# Altium footprint library Footprint-Lib-JVillodres.PcbLib: 38 footprints (part 3 of 3)
Each footprint in its own frame and in the unit in brackets; x right, y up, seen from the top. Pads: shape width x height; smd on the part's side, far side on the other; paste and mask are expansions set on the pad; w line width, h text height; cw(c..) or ccw(c..) is an arc to the next point about the centre after c.
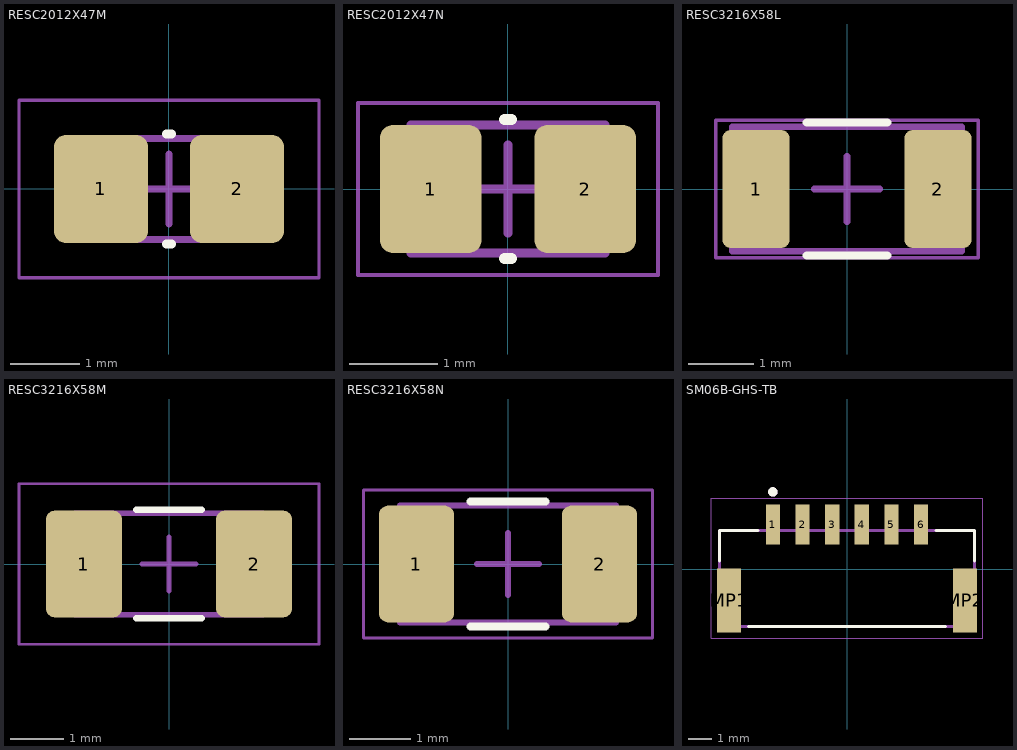
[diagram p2: the footprints below, top view; thin cyan lines are the x and y axes]

## RESC2012X47M [mm] "Chip Resistor, 2-Leads, Body 2,00x1,25mm, IPC Low Density"
height 0.47
pads (2):
  rrect25% 1.35x1.55 smd: 1(-0.975,0) 2(0.975,0)
Top Overlay:
  lines w0.127: -0.036,-0.788 0.036,-0.788 ; -0.036,0.788 0.036,0.788
Top Assembly:
  lines w0.1: -1.1,-0.725 -1.1,0.725 1.1,0.725 1.1,-0.725 -1.1,-0.725
Top Designator:
  text ".Designator" at 0,0.188 h1
Top Courtyard:
  lines w0.05: -2.15,-1.275 -2.15,1.275 2.15,1.275 2.15,-1.275 -2.15,-1.275
Top Component Center:
  lines w0.1: -0.5,0 0.5,0 ; 0,-0.5 0,0.5
3D body "RESC2012X47M.step": height 0.47, standoff 0, extent -1,-0.625 1,0.625

## RESC2012X47N [mm] "Chip Resistor, 2-Leads, Body 2,00x1,25mm, IPC Medium Density"
height 0.47
pads (2):
  rrect25% 1.15x1.45 smd: 1(-0.875,0) 2(0.875,0)
Top Overlay:
  lines w0.127: -0.036,-0.788 0.036,-0.788 ; -0.036,0.788 0.036,0.788
Top Assembly:
  lines w0.1: -1.1,-0.725 -1.1,0.725 1.1,0.725 1.1,-0.725 -1.1,-0.725
Top Designator:
  text ".Designator" at 0,0.188 h1
Top Courtyard:
  lines w0.05: -1.7,-0.975 -1.7,0.975 1.7,0.975 1.7,-0.975 -1.7,-0.975
Top Component Center:
  lines w0.1: -0.5,0 0.5,0 ; 0,-0.5 0,0.5
3D body "RESC2012X47N.step": height 0.47, standoff 0, extent -1,-0.625 1,0.625

## RESC3216X58L [mm] "Chip Resistor, 2-Leads, Body 3,20x1,60mm, IPC High Density"
height 0.58
pads (2):
  rrect25% 1.025x1.8 smd: 1(-1.388,0) 2(1.388,0)
Top Overlay:
  lines w0.127: -0.611,-1.013 0.611,-1.013 ; -0.611,1.014 0.611,1.014
Top Assembly:
  lines w0.1: -1.75,-0.95 1.75,-0.95 1.75,0.95 -1.75,0.95 -1.75,-0.95
Top Designator:
  text ".Designator" at 0,0.188 h1
Top Courtyard:
  lines w0.05: -2,-1.05 2,-1.05 2,1.05 -2,1.05 -2,-1.05
Top Component Center:
  lines w0.1: -0.5,0 0.5,0 ; 0,-0.5 0,0.5
3D body "RESC3216X58L.step": height 0.58, standoff 0, extent -1.6,-0.8 1.6,0.8

## RESC3216X58M [mm] "Chip Resistor, 2-Leads, Body 3,20x1,60mm, IPC Low Density"
height 0.58
pads (2):
  rrect25% 1.425x2 smd: 1(-1.587,0) 2(1.587,0)
Top Overlay:
  lines w0.127: -0.611,-1.014 0.611,-1.014 ; -0.611,1.014 0.611,1.014
Top Assembly:
  lines w0.1: -1.75,-0.95 1.75,-0.95 1.75,0.95 -1.75,0.95 -1.75,-0.95
Top Designator:
  text ".Designator" at 0,0.188 h1
Top Courtyard:
  lines w0.05: -2.8,-1.5 2.8,-1.5 2.8,1.5 -2.8,1.5 -2.8,-1.5
Top Component Center:
  lines w0.1: -0.5,0 0.5,0 ; 0,-0.5 0,0.5
3D body "RESC3216X58M.step": height 0.58, standoff 0, extent -1.6,-0.8 1.6,0.8

## RESC3216X58N [mm] "Chip Resistor, 2-Leads, Body 3,20x1,60mm, IPC Medium Density"
height 0.58
pads (2):
  rrect25% 1.225x1.9 smd: 1(-1.488,0) 2(1.488,0)
Top Overlay:
  lines w0.127: -0.611,-1.013 0.611,-1.013 ; -0.611,1.014 0.611,1.014
Top Assembly:
  lines w0.1: -1.75,-0.95 1.75,-0.95 1.75,0.95 -1.75,0.95 -1.75,-0.95
Top Designator:
  text ".Designator" at 0,0.188 h1
Top Courtyard:
  lines w0.05: -2.35,-1.2 2.35,-1.2 2.35,1.2 -2.35,1.2 -2.35,-1.2
Top Component Center:
  lines w0.1: -0.5,0 0.5,0 ; 0,-0.5 0,0.5
3D body "RESC3216X58N.step": height 0.58, standoff 0, extent -1.6,-0.8 1.6,0.8

## SM06B-GHS-TB [mm]
pads (8):
  rect 0.6x1.7 smd paste+0 mask+0.102: 1(-3.125,1.875) 2(-1.875,1.875) 3(-0.625,1.875) 4(0.625,1.875) 5(1.875,1.875) 6(3.125,1.875)
  rect 1x2.7 smd paste+0 mask+0.102: MP1(-4.975,-1.325) MP2(4.975,-1.325)
Top Overlay:
  circle w0.2: c-3.125,3.25 r0.1
  lines w0.127: -5.375,0.345 -5.375,1.625 -3.745,1.625 ; -4.155,-2.425 4.155,-2.425 ; 3.745,1.625 5.375,1.625 5.375,0.345
Top 3D Body:
  circle w0.2: c-3.125,3.25 r0.1
  lines w0.127: -5.375,-2.425 5.375,-2.425 5.375,1.625 -5.375,1.625 -5.375,-2.425
Top Courtyard:
  lines w0.05: -5.725,-2.925 5.725,-2.925 5.725,2.975 -5.725,2.975 -5.725,-2.925
3D body "step_temp.STEP": height 4.25, standoff 0, extent -5.375,-2.048 5.375,2.802